# EAGLE library part IRFHS8342TRPBF (library IRFHS8342TRPBF)
INFINEON - IRFHS8342TRPBF - MOSFET, N-CH, 30V, 8.8A, PQFN-8 Source: Datasheet <https://componentsearchengine.com/Datasheets/1/IRFHS8342TRPBF.pdf>
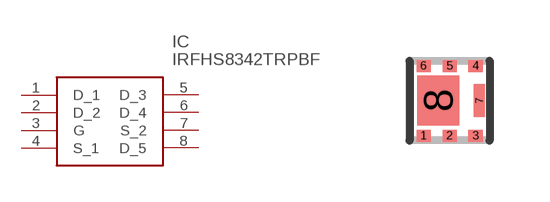
[diagram p0: symbol with the pads of PQFN(2X2); footprint PQFN(2X2)]

Designator prefix IC

## IRFHS8342TRPBF (ARROW_PART_NUMBER: IRFHS8342TRPBF; ARROW_PRICE-STOCK: https://www.arrow.com/en/products/irfhs8342trpbf/infineon-technologies-ag; DESCRIPTION: INFINEON - IRFHS8342TRPBF - MOSFET, N-CH, 30V, 8.8A, PQFN-8; HEIGHT: mm; MANUFACTURER_NAME: Infineon; MANUFACTURER_PART_NUMBER: IRFHS8342TRPBF; MOUSER_PART_NUMBER: 942-IRFHS8342TRPBF; MOUSER_PRICE-STOCK: https://www.mouser.co.uk/ProductDetail/Infineon-IR/IRFHS8342TRPBF?qs=Z8%252BeY1k3TILJK9l3AOTdfA%3D%3D)  [PQFN(2X2)]
1  D_1
2  D_2
3  G
4  S_1
5  D_3
6  D_4
7  S_2
8  D_5

## Footprint PQFN(2X2) (pad centres in mm)
PQFN(2x2)
smd 0.35 x 0.3: 1 0.35,-0.88; 2 1,-0.88; 3 1.65,-0.88; 4 1.65,0.87; 5 1,0.87; 6 0.35,0.87
smd 0.28 x 0.83: 7 1.744,0
smd 1.05 x 1.25: 8 0.72,0